# EAGLE library part 61306421221 (library Wurth_Elektronik_Electromechanic_Board_to_Board_Connectors_rev16a)
WR-PHD 2.54mm Dual Board Stacker, 64 Pins =>Code : Con_BTB_PHD_2.54_1_THT_61306421221 <http://katalog.we-online.de/media/images/eican/Con_BTB_PHD_2.54_1_THT_6130xx1xx21_pf2.jpg> Details see: http://katalog.we-online.de/en/em/613_0xx_1xx_21 Created 2014-05-29, Karrer Zheng 2014 (C) Würth Elektronik
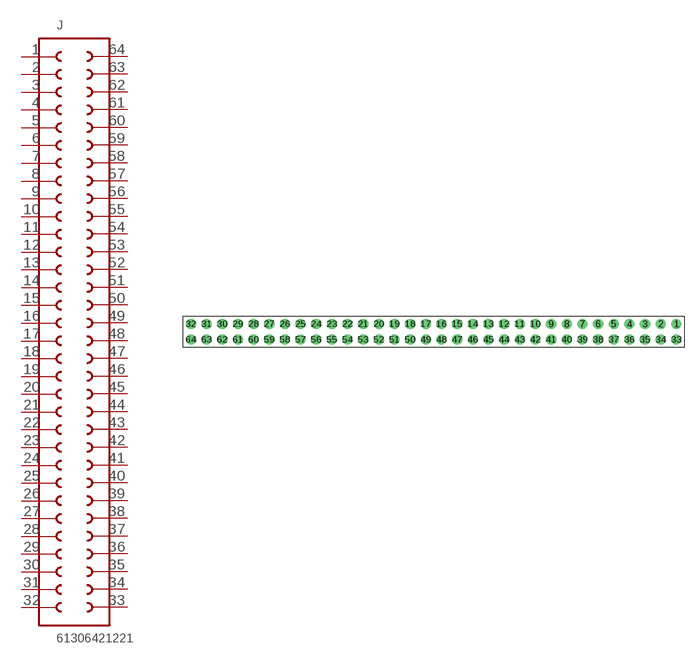
[diagram p57: symbol with the pads of 61306421221; footprint 61306421221]

Designator prefix J

## 61306421221  [61306421221]
1  1  pas
2  2  pas
3  3  pas
4  4  pas
5  5  pas
6  6  pas
7  7  pas
8  8  pas
9  9  pas
10  10  pas
11  11  pas
12  12  pas
13  13  pas
14  14  pas
15  15  pas
16  16  pas
17  17  pas
18  18  pas
19  19  pas
20  20  pas
21  21  pas
22  22  pas
23  23  pas
24  24  pas
25  25  pas
26  26  pas
27  27  pas
28  28  pas
29  29  pas
30  30  pas
31  31  pas
32  32  pas
33  33  pas
34  34  pas
35  35  pas
36  36  pas
37  37  pas
38  38  pas
39  39  pas
40  40  pas
41  41  pas
42  42  pas
43  43  pas
44  44  pas
45  45  pas
46  46  pas
47  47  pas
48  48  pas
49  49  pas
50  50  pas
51  51  pas
52  52  pas
53  53  pas
54  54  pas
55  55  pas
56  56  pas
57  57  pas
58  58  pas
59  59  pas
60  60  pas
61  61  pas
62  62  pas
63  63  pas
64  64  pas

## Footprint 61306421221 (pad centres in mm)
WR-PHD 2.54mm Dual Board Stacker, 64 Pins
drill 1.1: 1 43.18,1.27; 2 40.64,1.27; 3 38.1,1.27; 4 35.56,1.27; 5 33.02,1.27; 6 30.48,1.27; 7 27.94,1.27; 8 25.4,1.27; 9 22.86,1.27; 10 20.32,1.27; 11 17.78,1.27; 12 15.24,1.27; 13 12.7,1.27; 14 10.16,1.27; 15 7.62,1.27; 16 5.08,1.27; 17 2.54,1.27; 18 0,1.27; 19 -2.54,1.27; 20 -5.08,1.27; 21 -7.62,1.27; 22 -10.16,1.27; 23 -12.7,1.27; 24 -15.24,1.27; 25 -17.78,1.27; 26 -20.32,1.27; 27 -22.86,1.27; 28 -25.4,1.27; 29 -27.94,1.27; 30 -30.48,1.27; 31 -33.02,1.27; 32 -35.56,1.27; 33 43.18,-1.27; 34 40.64,-1.27; 35 38.1,-1.27; 36 35.56,-1.27; 37 33.02,-1.27; 38 30.48,-1.27; 39 27.94,-1.27; 40 25.4,-1.27; 41 22.86,-1.27; 42 20.32,-1.27; 43 17.78,-1.27; 44 15.24,-1.27; 45 12.7,-1.27; 46 10.16,-1.27; 47 7.62,-1.27; 48 5.08,-1.27; 49 2.54,-1.27; 50 0,-1.27; 51 -2.54,-1.27; 52 -5.08,-1.27; 53 -7.62,-1.27; 54 -10.16,-1.27; 55 -12.7,-1.27; 56 -15.24,-1.27; 57 -17.78,-1.27; 58 -20.32,-1.27; 59 -22.86,-1.27; 60 -25.4,-1.27; 61 -27.94,-1.27; 62 -30.48,-1.27; 63 -33.02,-1.27; 64 -35.56,-1.27